# EAGLE library part DRV8835 (library FPV-Auto)
DRV8835 DRV8835 Dual Low-Voltage H-Bridge IC Links Datasheet <http://www.ti.com/lit/gpn/drv8835> Product website <http://www.ti.com/product/DRV8835>
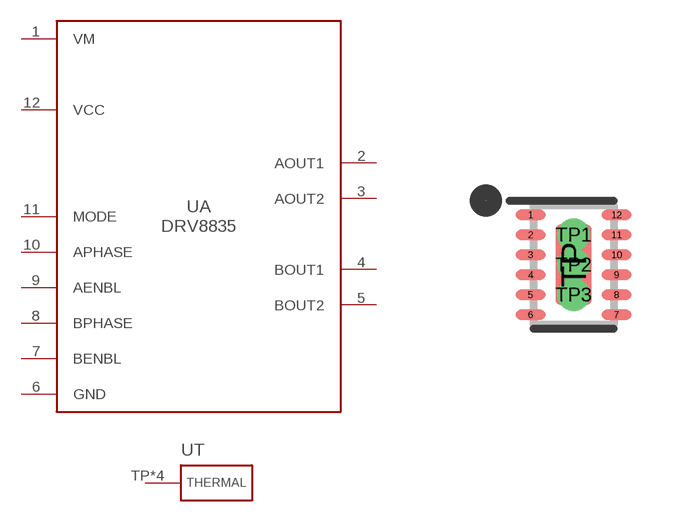
[diagram p3: symbol with the pads of DSS(WSON-12); footprint DSS(WSON-12)]

Designator prefix U; gates A=DRV8835 T=THERMAL

## DRV8835  [DSS(WSON-12)]
1  A:VM  pwr
2  A:AOUT1  out
3  A:AOUT2  out
4  A:BOUT1  out
5  A:BOUT2  out
6  A:GND  pwr
7  A:BENBL  in
8  A:BPHASE
9  A:AENBL  in
10  A:APHASE  in
11  A:MODE  in
12  A:VCC  pwr
TP  T:GND  pwr
TP1  T:GND  pwr
TP2  T:GND  pwr
TP3  T:GND  pwr

## Footprint DSS(WSON-12) (pad centres in mm)
smd 0.75 x 0.25: 1 -1.075,1.25; 2 -1.075,0.75; 3 -1.075,0.25; 4 -1.075,-0.25; 5 -1.075,-0.75; 6 -1.075,-1.25; 7 1.075,-1.25; 8 1.075,-0.75; 9 1.075,-0.25; 10 1.075,0.25; 11 1.075,0.75; 12 1.075,1.25
smd 0.9 x 2: TP 0,0
drill 0.3: TP1 0,0.75; TP2 0,0; TP3 0,-0.75